# EAGLE library part E3RP (library RESISTOR_SIL)
SIL RESISTOR
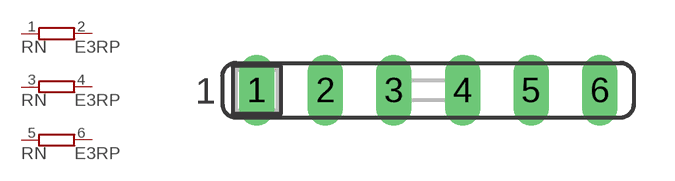
[diagram p5: symbol with the pads of SIL6; footprint SIL6]

Designator prefix RN; gates A=RPV B=RPV C=RPV

## E3RP  [SIL6]
1  A:1  pas
2  A:2  pas
3  B:1  pas
4  B:2  pas
5  C:1  pas
6  C:2  pas

## Footprint SIL6 (pad centres in mm)
Single In Line
drill 0.813 long: 1 -6.35,0; 2 -3.81,0; 3 -1.27,0; 4 1.27,0; 5 3.81,0; 6 6.35,0